# Altium schematic symbol library MOC3072.Schlib: 1 symbol
Pins are listed as number, name and electrical type; pins without a type are passive.

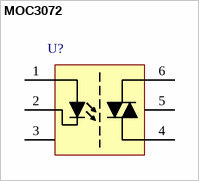
[diagram p0: symbol MOC3072]

## MOC3072
designator U?  (value not drawn)
pins: 1 A, 2 C, 3 NC, 4 M2, 5 NC, 6 M1